# EAGLE library part MT9V034 (library rgb_cube)
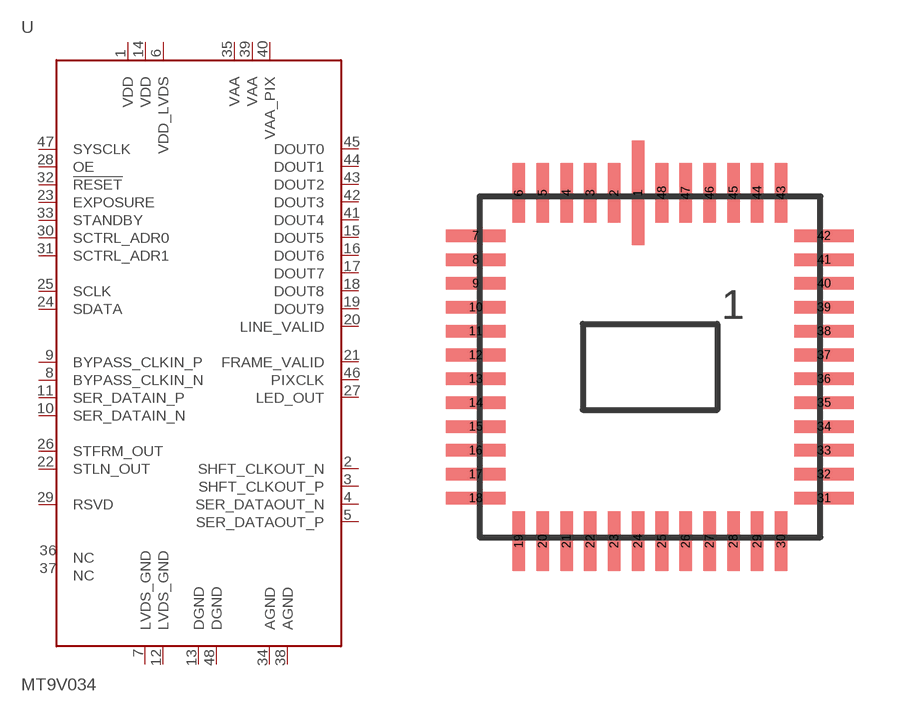
[diagram p48: symbol with the pads of CLCC-48; footprint CLCC-48]

Designator prefix -

## MT9V034  [CLCC-48]
1  VDD  in
2  SHFT_CLKOUT_N  out
3  SHFT_CLKOUT_P  out
4  SER_DATAOUT_N  out
5  SER_DATAOUT_P  out
6  VDD_LVDS  in
7  LVDS_GND  pwr
8  BYPASS_CLKIN_N  in
9  BYPASS_CLKIN_P  in
10  SER_DATAIN_N  in
11  SER_DATAIN_P  in
12  LVDS_GND  pwr
13  DGND  pwr
14  VDD  in
15  DOUT5  out
16  DOUT6  out
17  DOUT7  out
18  DOUT8  out
19  DOUT9  out
20  LINE_VALID  out
21  FRAME_VALID  out
22  STLN_OUT
23  EXPOSURE  in
24  SDATA
25  SCLK  in
26  STFRM_OUT
27  LED_OUT  out
28  OE  in
29  RSVD  in
30  SCTRL_ADR0  in
31  SCTRL_ADR1  in
32  !RESET  in
33  STANDBY  in
34  AGND  pwr
35  VAA  in
36  NC  nc
37  NC  nc
38  AGND  pwr
39  VAA  in
40  VAA_PIX  in
41  DOUT4  out
42  DOUT3  out
43  DOUT2  out
44  DOUT1  out
45  DOUT0  out
46  PIXCLK  out
47  SYSCLK  in
48  DGND  pwr

## Footprint CLCC-48 (pad centres in mm)
smd 0.42 x 3.5: 1 -0.4,5.84
smd 0.42 x 2: 2 -1.2,5.84; 3 -2,5.84; 4 -2.8,5.84; 5 -3.6,5.84; 6 -4.4,5.84; 19 -4.4,-5.84; 20 -3.6,-5.84; 21 -2.8,-5.84; 22 -2,-5.84; 23 -1.2,-5.84; 24 -0.4,-5.84; 25 0.4,-5.84; 26 1.2,-5.84; 27 2,-5.84; 28 2.8,-5.84; 29 3.6,-5.84; 30 4.4,-5.84; 43 4.4,5.84; 44 3.6,5.84; 45 2.8,5.84; 46 2,5.84; 47 1.2,5.84; 48 0.4,5.84
smd 2 x 0.42: 7 -5.84,4.4; 8 -5.84,3.6; 9 -5.84,2.8; 10 -5.84,2; 11 -5.84,1.2; 12 -5.84,0.4; 13 -5.84,-0.4; 14 -5.84,-1.2; 15 -5.84,-2; 16 -5.84,-2.8; 17 -5.84,-3.6; 18 -5.84,-4.4; 31 5.84,-4.4; 32 5.84,-3.6; 33 5.84,-2.8; 34 5.84,-2; 35 5.84,-1.2; 36 5.84,-0.4; 37 5.84,0.4; 38 5.84,1.2; 39 5.84,2; 40 5.84,2.8; 41 5.84,3.6; 42 5.84,4.4